# Altium footprint library ControlCircuit_PCB_Library_V1_0.PcbLib: 207 footprints (part 6 of 13)
Each footprint in its own frame and in the unit in brackets; x right, y up, seen from the top. Pads: shape width x height; smd on the part's side, far side on the other; paste and mask are expansions set on the pad; w line width, h text height; cw(c..) or ccw(c..) is an arc to the next point about the centre after c.
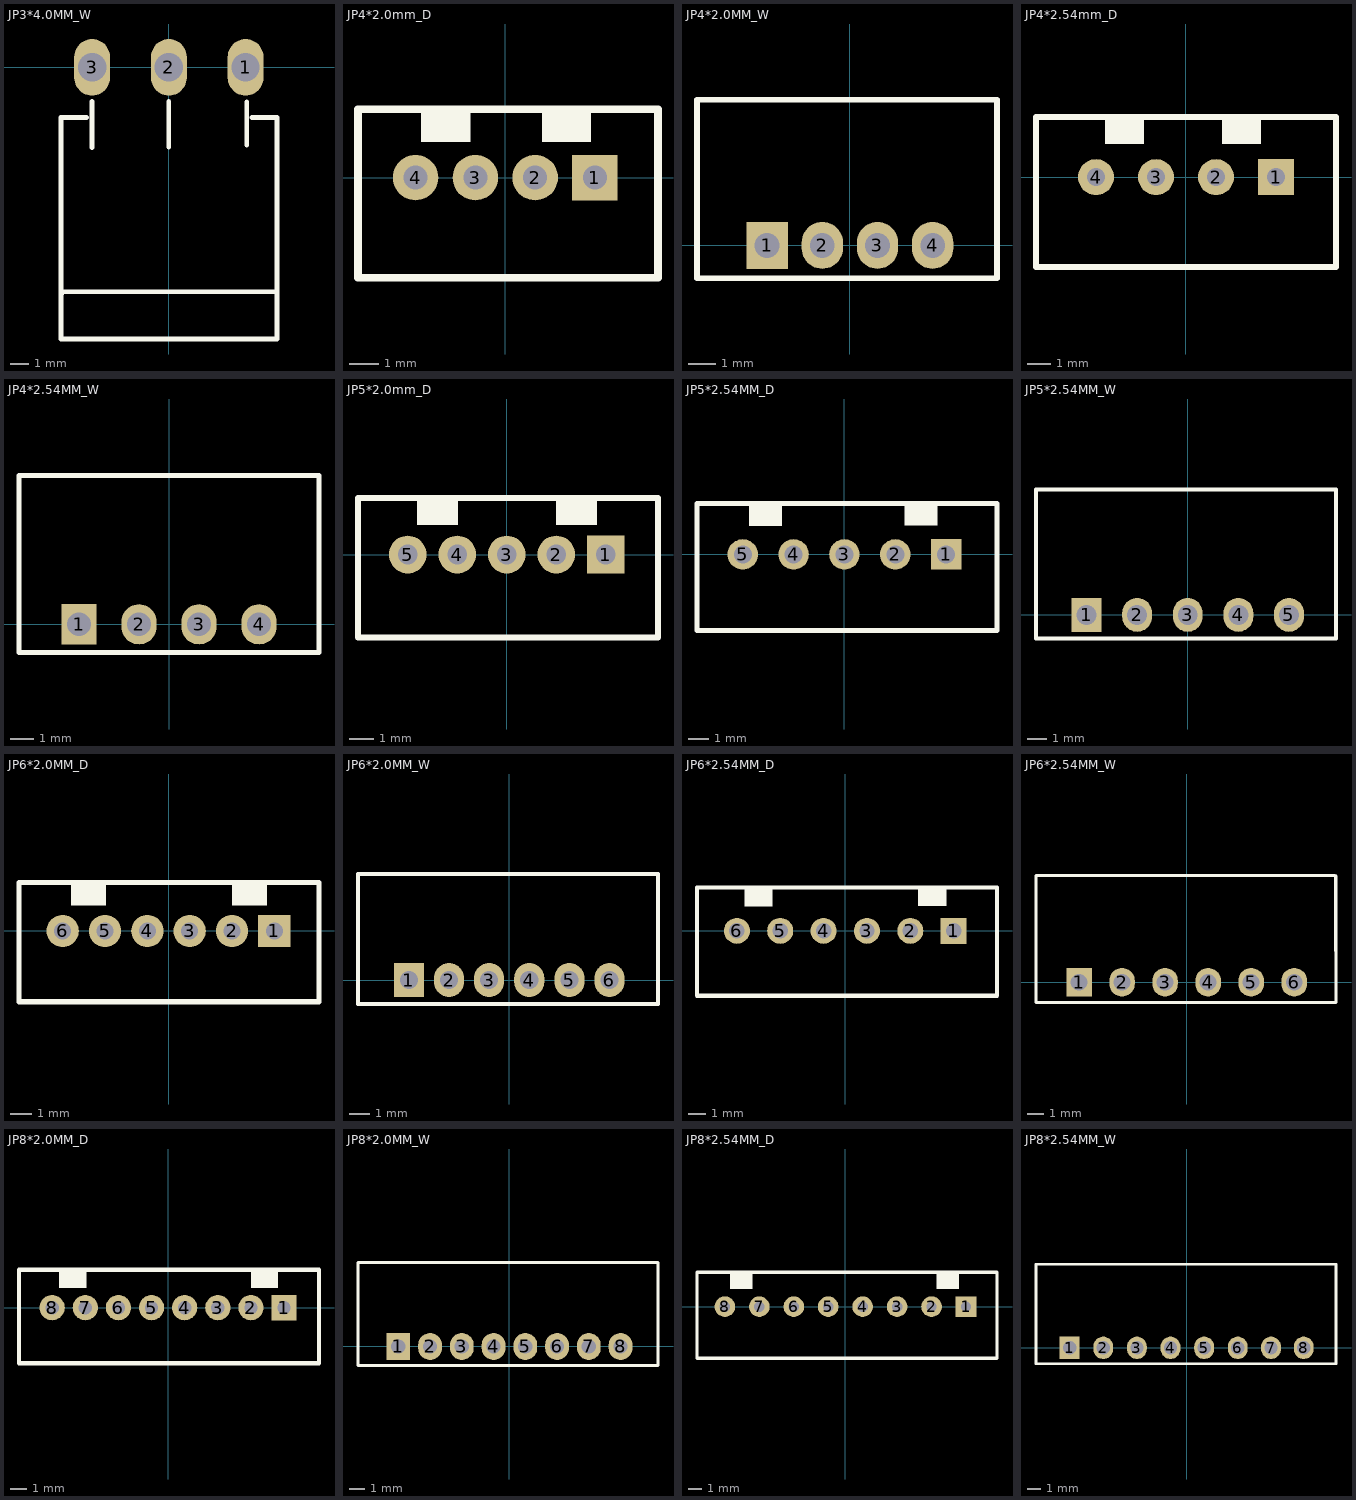
[diagram p5: the footprints below, top view; thin cyan lines are the x and y axes]

## JP3*4.0MM_W [mm] "电源接插件90度弯针"
height 8.8
pads (3):
  oval 1.9x3 hole 1.5: 1(4.064,0) 2(0,0) 3(-4.064,0)
Top Overlay:
  lines w0.254: -5.715,-14.393 -5.715,-2.66 -5.721,-2.666 -4.364,-2.666 ; -5.706,-14.296 -5.609,-14.393 -1.261,-14.393 ; -5.706,-12.01 -5.589,-11.893 -0.118,-11.893 ; -4.065,-4.261 -4.065,-1.799 ; -1.576,-14.393 5.735,-14.393 ; -1.576,-11.893 5.735,-11.893 ; -0.004,-4.233 -0.004,-1.8 ; 4.123,-4.126 4.123,-1.822 ; 4.393,-2.666 5.728,-2.666 5.726,-2.663 5.726,-14.393

## JP4*2.0mm_D [mm]
pads (4):
  rect 1.524x1.524 hole 0.8: 1(3,0)
  round 1.524 hole 0.8: 2(1,0) 3(-1,0) 4(-3,0)
Top Overlay:
  region: -2.817,2.337 -2.817,1.194 -1.166,1.194 -1.166,2.337
  region: 1.222,2.337 1.222,1.194 2.873,1.194 2.873,2.337
  lines w0.254: -4.925,-3.353 -4.925,2.286 5.108,2.286 5.108,-3.353 -4.925,-3.353

## JP4*2.0MM_W [mm]
pads (4):
  rect 1.5x1.7 hole 0.9: 1(-3,0)
  oval 1.5x1.7 hole 0.9: 2(-1,0) 3(1,0) 4(3,0)
Top Overlay:
  lines w0.2: -5.54,-1.194 -5.54,1.822 -5.54,5.283 5.331,5.283 5.331,-1.194 -3.787,-1.194 -5.54,-1.194

## JP4*2.54mm_D [mil]
pads (4):
  rect 60x60 hole 30: 1(150,0)
  round 60 hole 30: 2(50,0) 3(-50,0) 4(-150,0)
Top Overlay:
  region: -135,100 -135,55 -70,55 -70,100
  region: 60,100 60,55 125,55 125,100
  lines w10: -250,-149.61 -230,-149.61 200,-149.61 250,-149.61 250,98.43 250,100 -230,100 -250,100 -250,-149.61

## JP4*2.54MM_W [mm]
height 3.5
pads (4):
  rect 1.5x1.7 hole 1: 1(-3.81,0)
  oval 1.5x1.7 hole 1: 2(-1.27,0) 3(1.27,0) 4(3.81,0)
Top Overlay:
  lines w0.2: -6.35,6.299 -6.35,1.822 -6.35,-1.194 -4.597,-1.194 6.35,-1.194 ; -6.299,6.299 6.35,6.299 ; 6.35,-1.168 6.35,6.274

## JP5*2.0mm_D [mil]
pads (5):
  rect 60x60 hole 31.5: 1(157.48,0)
  round 60 hole 31.5: 2(78.74,0) 3(0,0) 4(-78.74,0) 5(-157.48,0)
Top Overlay:
  region: -142.52,92 -142.52,47 -77.52,47 -77.52,92
  region: 78.48,92 78.48,47 143.48,47 143.48,92
  lines w10: -236.52,-132 -236.52,90 240.48,90 240.48,-132 -236.52,-132

## JP5*2.54MM_D [mil]
pads (5):
  rect 60x60 hole 35.43: 1(200,0)
  round 60 hole 35.43: 2(100,0) 3(0,0) 4(-100,0) 5(-200,0)
Top Overlay:
  region: -188,101 -188,56 -123,56 -123,101
  region: 118,102 118,57 183,57 183,102
  lines w10: -290,-149.61 -180,-149.61 250,-149.61 300,-149.61 300,98.43 300,100 -180,100 -290,100 -290,-149.61

## JP5*2.54MM_W [mm]
pads (5):
  rect 1.5x1.7 hole 1: 1(-5.08,0)
  oval 1.5x1.7 hole 1: 2(-2.54,0) 3(0,0) 4(2.54,0) 5(5.08,0)
Top Overlay:
  lines w0.2: -7.62,6.299 -7.62,1.822 -7.62,-1.194 -5.867,-1.194 7.442,-1.194 7.442,6.299 -7.569,6.299

## JP6*2.0MM_D [mm]
pads (6):
  rect 1.524x1.524 hole 0.8: 1(5,0)
  round 1.524 hole 0.8: 2(3,0) 3(1,0) 4(-1,0) 5(-3,0) 6(-5,0)
Top Overlay:
  region: -4.601,2.337 -4.601,1.194 -2.95,1.194 -2.95,2.337
  region: 2.993,2.337 2.993,1.194 4.644,1.194 4.644,2.337
  lines w0.254: -7.065,-3.353 -7.065,2.286 7.108,2.286 7.108,-3.353 -7.065,-3.353

## JP6*2.0MM_W [mm]
pads (6):
  rect 1.5x1.7 hole 0.9: 1(-5,0)
  oval 1.5x1.7 hole 0.9: 2(-3,0) 3(-1,0) 4(1,0) 5(3,0) 6(5,0)
Top Overlay:
  lines w0.2: -7.54,-1.194 -5.787,-1.194 7.421,-1.194 7.421,5.283 -7.54,5.283 -7.54,1.822 -7.54,-1.194

## JP6*2.54MM_D [mil]
pads (6):
  rect 60x60 hole 35.43: 1(250,0)
  round 60 hole 35.43: 2(150,0) 3(50,0) 4(-50,0) 5(-150,0) 6(-250,0)
Top Overlay:
  region: 168,102 168,57 233,57 233,102
  region: -233,101 -233,56 -168,56 -168,101
  lines w10: -342,-149.61 -342,100 -130,100 350,100 350,98.43 350,-149.61 300,-149.61 -130,-149.61 -342,-149.61

## JP6*2.54MM_W [mm]
pads (6):
  rect 1.5x1.7 hole 1: 1(-6.35,0)
  oval 1.5x1.7 hole 1: 2(-3.81,0) 3(-1.27,0) 4(1.27,0) 5(3.81,0) 6(6.35,0)
Top Overlay:
  lines w0.2: -8.89,6.299 -8.89,1.822 -8.89,-1.194 -7.137,-1.194 6.53,-1.194 8.814,-1.194 8.814,1.863 8.807,1.87 8.807,4.997 8.807,6.248 8.757,6.299 -8.839,6.299

## JP8*2.0MM_D [mm]
pads (8):
  rect 1.524x1.524 hole 0.8: 1(7,0)
  round 1.524 hole 0.8: 2(5,0) 3(3,0) 4(1,0) 5(-1,0) 6(-3,0) 7(-5,0) 8(-7,0)
Top Overlay:
  region: -6.589,2.337 -6.589,1.194 -4.938,1.194 -4.938,2.337
  region: 4.993,2.337 4.993,1.194 6.644,1.194 6.644,2.337
  lines w0.254: -9.002,-3.353 -9.002,2.286 9.108,2.286 9.108,-3.353 -9.002,-3.353

## JP8*2.0MM_W [mm]
pads (8):
  rect 1.5x1.7 hole 0.9: 1(-7,0)
  oval 1.5x1.7 hole 0.9: 2(-5,0) 3(-3,0) 4(-1,0) 5(1,0) 6(3,0) 7(5,0) 8(7,0)
Top Overlay:
  lines w0.2: -9.54,-1.194 -7.787,-1.194 9.358,-1.194 9.358,5.283 -9.54,5.283 -9.54,1.822 -9.54,-1.194

## JP8*2.54MM_D [mil]
pads (8):
  rect 60x60 hole 30: 1(350,0)
  round 60 hole 30: 2(250,0) 3(150,0) 4(50,0) 5(-50,0) 6(-150,0) 7(-250,0) 8(-350,0)
Top Overlay:
  region: -335,97 -335,52 -270,52 -270,97
  region: 264,96 264,51 329,51 329,96
  lines w10: -431,-149.61 -431,100 440,100 440,-149.61 -200,-149.61 -431,-149.61

## JP8*2.54MM_W [mm]
pads (8):
  rect 1.5x1.7 hole 1: 1(-8.839,0)
  oval 1.5x1.7 hole 1: 2(-6.299,0) 3(-3.759,0) 4(-1.219,0) 5(1.321,0) 6(3.861,0) 7(6.375,0) 8(8.839,0)
Top Overlay:
  lines w0.2: -11.379,6.299 -11.379,1.822 -11.379,-1.194 -9.627,-1.194 4.041,-1.194 6.325,-1.194 8.788,-1.194 11.252,-1.194 ; -11.328,6.299 11.278,6.299 11.278,-1.194